# Altium schematic symbol library test.SchLib: 309 symbols (part 3 of 9)
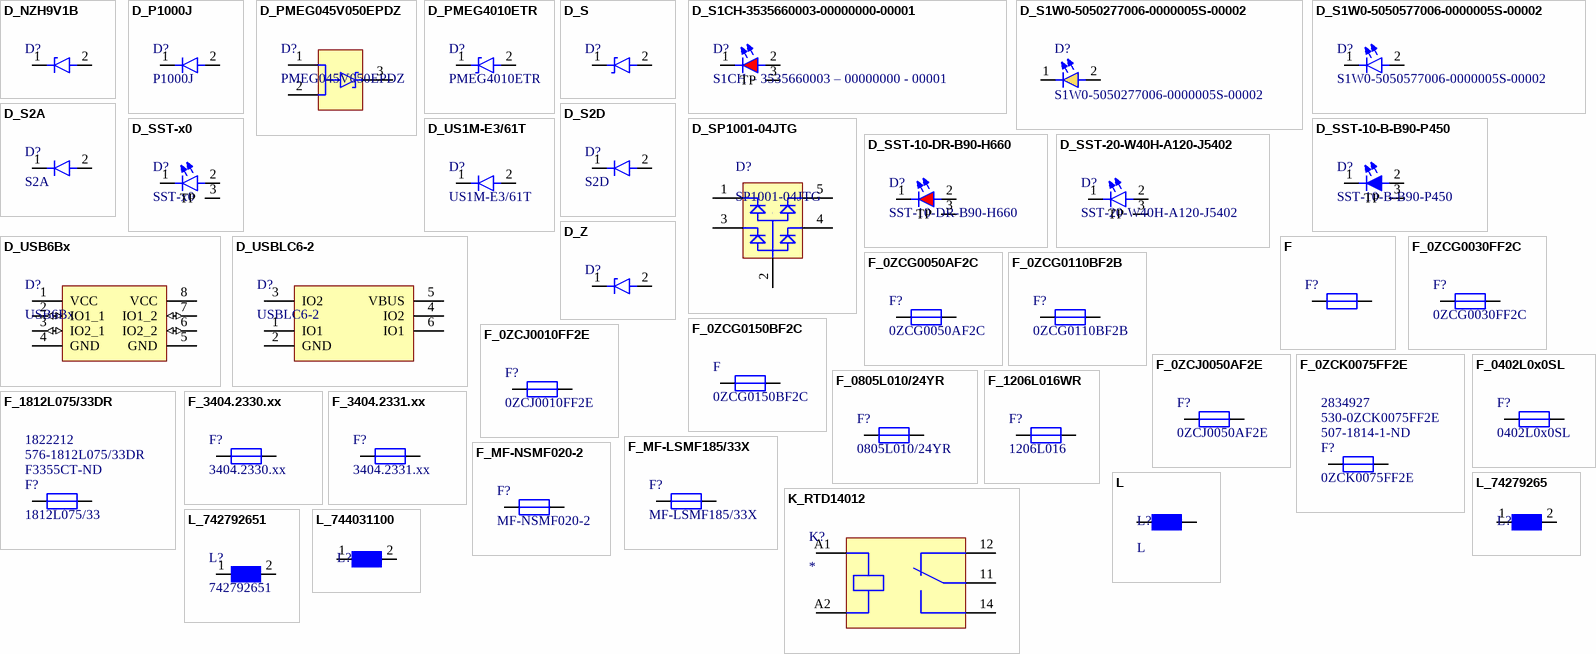
[diagram p10: symbols D_NZH9V1B to L_744031100]

## L_742792651
designator L?, comment 742792651
WURTH ELEKTRONIK - 742792651 - Ferrite Bead, 0603 [1608 Metric], 600 ohm, 1 A, WE-CBF Series, 0.2 ohm, &#177; 25%; Manufacturer: Wurth Electronics; Current Rating: 1A; Impedance: 600R; Number of Lines: 1; DC Resistance (DCR): 200mR; Test Frequency: 100MHz; Inductance: 0.36h; Supplier 1: Digi-Key; Supplier Part Number 1: 732-1593-1-ND; Manufacturer Part Number: 742792651; Stock 1: 248632; Pricing 1: 1=0.17000, 50=0.16800, 100=0.15500, 500=0.14800, 1000=0.14100, 2000=0.13400 (USD); Mount: Surface Mount; Case/Package: SMD/SMT; Weight: 0.000141oz; Case Code (Metric): 1608; Case Code (Imperial): 0603; Material: Ferrite; Core Material: Ferrite; Min Operating Temperature: -55°C; Max Operating Temperature: 125°C; Tolerance: 25%; Package Quantity: 1; Packaging: Tape and Reel; Max Current Rating: 1A; Max DC Current: 1A; Termination: SMD/SMT; Resistance: 200mR; Length: 1.6mm; Height: 0.8mm; Width: 0.8mm; Depth: 0.8mm; REACH SVHC: Unknown; Lead Free: Lead Free; ComponentLink1URL: http://documents.rs-components.com/techlib://itc_doclist_GB.htm?stockno=6694046; ComponentLink1Description: http://documents.rs-components.com/techlib://itc_doclist_GB.htm?stockno=6694046; ComponentLink2URL: http://www.farnell.com/datasheets/1705833.pdf; ComponentLink2Description: http://www.farnell.com/datasheets/1705833.pdf; ComponentLink3URL: https://katalog.we-online.de/pbs/datasheet/742792651.pdf; ComponentLink3Description: https://katalog.we-online.de/pbs/datasheet/742792651.pdf; ComponentLink4URL: http://www.mouser.com/ds/2/445/742792651-538156.pdf; ComponentLink4Description: http://www.mouser.com/ds/2/445/742792651-538156.pdf; RoHS: Yes; Category: Ferrite Beads and Chips; Series: WE-CBF; RoHS Compliant: Yes; ComponentLink5URL: https://datasheet.ciiva.com/11803/0900766b80d2e079-11803680.pdf?src-supplier=RSComponents; ComponentLink5Description: https://datasheet.ciiva.com/11803/0900766b80d2e079-11803680.pdf?src-supplier=RSComponents; ComponentLink6URL: https://datasheet.ciiva.com/1475/1705833-1475349.pdf?src-supplier=Farnell; ComponentLink6Description: https://datasheet.ciiva.com/1475/1705833-1475349.pdf?src-supplier=Farnell; ComponentLink7URL: https://datasheet.ciiva.com/1013/742792651-1013527.pdf?src-supplier=Digi-Key; ComponentLink7Description: https://datasheet.ciiva.com/1013/742792651-1013527.pdf?src-supplier=Digi-Key; ComponentLink8URL: https://datasheet.ciiva.com/4940/742792651-72243-4940492.pdf?src-supplier=Mouser; ComponentLink8Description: https://datasheet.ciiva.com/4940/742792651-72243-4940492.pdf?src-supplier=Mouser; ComponentLink9URL: https://datasheet.ciiva.com/1013/742792651-1013528.pdf?src-supplier=Digi-Key; ComponentLink9Description: https://datasheet.ciiva.com/1013/742792651-1013528.pdf?src-supplier=Digi-Key; ComponentLink10URL: https://datasheet.ciiva.com/1013/742792651-1013529.pdf?src-supplier=Digi-Key; ComponentLink10Description: https://datasheet.ciiva.com/1013/742792651-1013529.pdf?src-supplier=Digi-Key; ComponentLink11URL: https://datasheet.ciiva.com/22711/1705833-22711420.pdf?src-supplier=Element14; ComponentLink11Description: https://datasheet.ciiva.com/22711/1705833-22711420.pdf?src-supplier=Element14; Supplier 2: Mouser; Stock 2: 272524; Pricing 2: 1=0.18000, 10=0.18000, 50=0.17400, 100=0.16000, 1000=0.14600, 10000=0.08200 (USD); Supplier 3: Farnell; Stock 3: 95420; Pricing 3: 10=0.24400, 100=0.16400, 500=0.12300, 1000=0.10800, 2000=0.10200 (GBP); Supplier Part Number 2: 710-742792651; Supplier Part Number 3: 1635706
footprint 0603_L
pins: 1, 2

## L_744031100
designator L?, comment 744031100  (value not drawn)
FIXED IND 10UH 740MA 205 MOHM; Manufacturer: Wurth Electronics; Core Material: Ferrite; Inductance Tolerance: 30%; Self Resonant Frequency: 45MHz; Saturation Current: 560mA; Shielding: Shielded; DC Resistance (DCR): 205mR; Test Frequency: 100kHz; Manufacturer Part Number: 744031100; ComponentLink1Description: Manufacturer URL; ComponentLink1URL: http://www.we-online.com; ComponentLink2Description: Datasheet; ComponentLink2URL: http://www.we-online.de/katalog/media/pdf/744031100.pdf; Case/Package: Nonstandard; ComponentLink3URL: https://datasheet.ciiva.com/11799/0900766b8079f7b2-11799684.pdf; ComponentLink3Description: https://datasheet.ciiva.com/11799/0900766b8079f7b2-11799684.pdf; ComponentLink4URL: https://datasheet.ciiva.com/4961/744031100-72715-4961390.pdf; ComponentLink4Description: https://datasheet.ciiva.com/4961/744031100-72715-4961390.pdf; ComponentLink5URL: https://datasheet.ciiva.com/1567/744031100-1567208.pdf; ComponentLink5Description: https://datasheet.ciiva.com/1567/744031100-1567208.pdf; ComponentLink6URL: https://datasheet.ciiva.com/1050/744031100-1050622.pdf; ComponentLink6Description: https://datasheet.ciiva.com/1050/744031100-1050622.pdf; ComponentLink7URL: https://datasheet.ciiva.com/1050/744031100-1050623.pdf; ComponentLink7Description: https://datasheet.ciiva.com/1050/744031100-1050623.pdf; ComponentLink8URL: https://datasheet.ciiva.com/1050/744031100-1050621.pdf; ComponentLink8Description: https://datasheet.ciiva.com/1050/744031100-1050621.pdf; ComponentLink9URL: https://datasheet.ciiva.com/1473/744031100-1473425.pdf; ComponentLink9Description: https://datasheet.ciiva.com/1473/744031100-1473425.pdf; ComponentLink10URL: https://datasheet.ciiva.com/1473/744031100-1473424.pdf; ComponentLink10Description: https://datasheet.ciiva.com/1473/744031100-1473424.pdf; ComponentLink11URL: https://datasheet.ciiva.com/48691/001087154-da-01-ml-we-tpc-smd-speicherdrossel-7440311-de-en-48691029.pdf; ComponentLink11Description: https://datasheet.ciiva.com/48691/001087154-da-01-ml-we-tpc-smd-speicherdrossel-7440311-de-en-48691029.pdf; Supplier 1: Digi-Key; Supplier Part Number 1: 732-1010-1-ND; RoHS: Yes; Category: Fixed Inductors; Stock 1: 83; Pricing 1: 1=1.43000, 10=1.38900, 50=1.21500, 100=1.11100, 500=0.98000 (USD); Mount: Surface Mount; Weight: 0.003633oz; Min Operating Temperature: -40°C; Max Operating Temperature: 125°C; Inductance: 10uH; Tolerance: 30%; Package Quantity: 1000; Current Rating: 740mA; Packaging: Tape and Reel; Resistor Type: Wirewound; Max DC Current: 740mA; Termination: SMD/SMT; RMS Current (Irms): 740mA; Series: WE-TPC 3816; Series Resistance: 205mR; Length: 3.8mm; Width: 3.8mm; Height: 1.65mm; Height - Seated (Max): 0.071inch; REACH SVHC: Unknown; RoHS Compliant: Yes; Lead Free: Lead Free; ComponentLink12URL: https://datasheet.ciiva.com/11799/0900766b8079f7b2-11799684.pdf?src-supplier=RSComponents; ComponentLink12Description: https://datasheet.ciiva.com/11799/0900766b8079f7b2-11799684.pdf?src-supplier=RSComponents; ComponentLink13URL: https://datasheet.ciiva.com/1567/744031100-1567208.pdf?src-supplier=Newark; ComponentLink13Description: https://datasheet.ciiva.com/1567/744031100-1567208.pdf?src-supplier=Newark; ComponentLink14URL: https://datasheet.ciiva.com/4961/744031100-72715-4961390.pdf?src-supplier=Mouser; ComponentLink14Description: https://datasheet.ciiva.com/4961/744031100-72715-4961390.pdf?src-supplier=Mouser; ComponentLink15URL: https://datasheet.ciiva.com/1473/744031100-1473424.pdf?src-supplier=Element14; ComponentLink15Description: https://datasheet.ciiva.com/1473/744031100-1473424.pdf?src-supplier=Element14; ComponentLink16URL: https://datasheet.ciiva.com/1473/744031100-1473425.pdf?src-supplier=Element14; ComponentLink16Description: https://datasheet.ciiva.com/1473/744031100-1473425.pdf?src-supplier=Element14; ComponentLink17URL: https://datasheet.ciiva.com/1050/744031100-1050621.pdf?src-supplier=Digi-Key; ComponentLink17Description: https://datasheet.ciiva.com/1050/744031100-1050621.pdf?src-supplier=Digi-Key; ComponentLink18URL: https://datasheet.ciiva.com/1050/744031100-1050622.pdf?src-supplier=Digi-Key; ComponentLink18Description: https://datasheet.ciiva.com/1050/744031100-1050622.pdf?src-supplier=Digi-Key; ComponentLink19URL: https://datasheet.ciiva.com/1050/744031100-1050623.pdf?src-supplier=Digi-Key; ComponentLink19Description: https://datasheet.ciiva.com/1050/744031100-1050623.pdf?src-supplier=Digi-Key; ComponentLink20URL: https://datasheet.ciiva.com/48691/001087154-da-01-ml-we-tpc-smd-speicherdrossel-7440311-de-en-48691029.pdf?src-supplier=Conrad; ComponentLink20Description: https://datasheet.ciiva.com/48691/001087154-da-01-ml-we-tpc-smd-speicherdrossel-7440311-de-en-48691029.pdf?src-supplier=Conrad; Supplier 2: Farnell; Stock 2: 530; Pricing 2: 1=1.15000, 50=0.89000, 100=0.81400, 250=0.76600, 500=0.71800, 1000=0.51000, 5000=0.50500 (GBP); Supplier 3: Mouser; Stock 3: 1369; Pricing 3: 1=1.48000, 10=1.44000, 50=1.26000, 100=1.15000, 1000=0.79700, 10000=0.71400 (USD); Supplier Part Number 2: 1635835; Supplier Part Number 3: 710-744031100
footprint WE-TPC-3816-S (SMD Inductor, 2-Leads, Body 3.8x3.8x1.8 mm)
pins: 1, 2

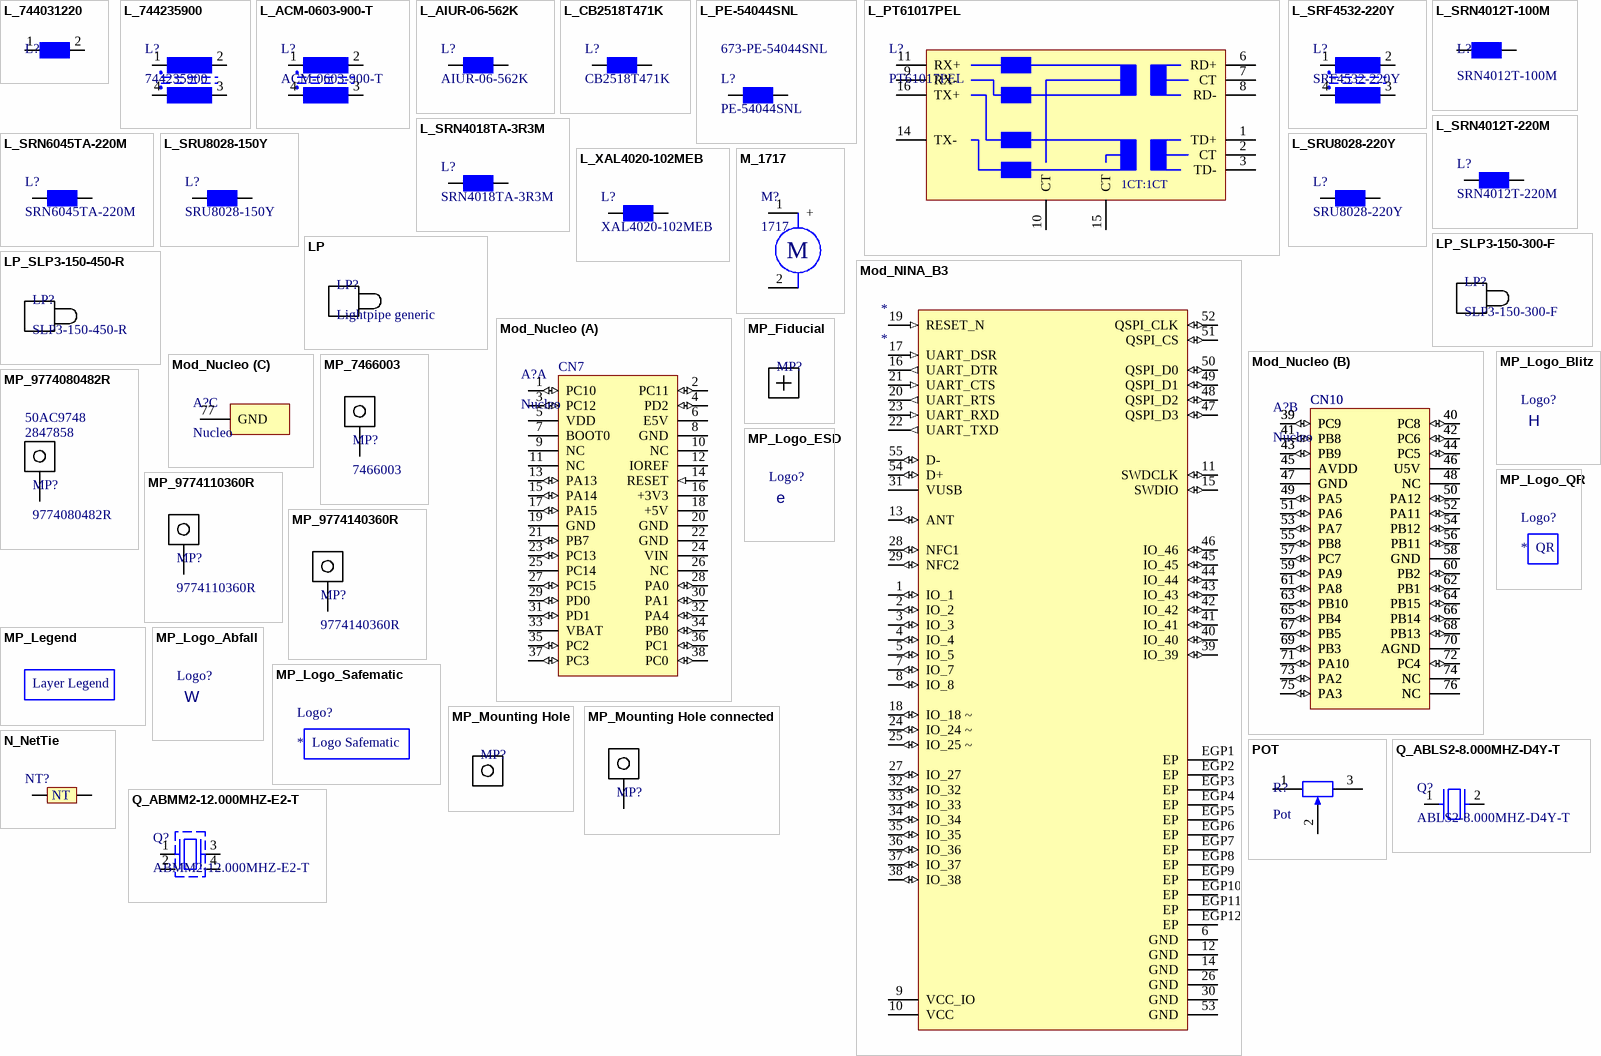
[diagram p2: symbols L_744031220 to Q_ABMM2-12.000MHZ-E2-T]

## L_744031220
designator L?, comment 744031220  (value not drawn)
SMD Shielded Tiny Power Inductor WE-TPC, L = 22.0 µH; Manufacturer: Würth; Manufacturer Part Number: 744031220; ComponentLink1Description: Manufacturer URL; ComponentLink1URL: http://www.we-online.com; ComponentLink2Description: Datasheet; ComponentLink2URL: http://www.we-online.de/katalog/media/pdf/744031220.pdf; Case/Package: Nonstandard; ComponentLink3URL: https://datasheet.ciiva.com/4961/744031220-79613-4961173.pdf; ComponentLink3Description: https://datasheet.ciiva.com/4961/744031220-79613-4961173.pdf; ComponentLink4URL: https://datasheet.ciiva.com/7210/744031220-7210946.pdf; ComponentLink4Description: https://datasheet.ciiva.com/7210/744031220-7210946.pdf; ComponentLink5URL: https://datasheet.ciiva.com/11800/0900766b8079f7b9-11800353.pdf; ComponentLink5Description: https://datasheet.ciiva.com/11800/0900766b8079f7b9-11800353.pdf; ComponentLink6URL: https://datasheet.ciiva.com/7691/744031220-7691543.pdf; ComponentLink6Description: https://datasheet.ciiva.com/7691/744031220-7691543.pdf; ComponentLink7URL: https://datasheet.ciiva.com/14123/lp744031220-data-de-14123802.pdf; ComponentLink7Description: https://datasheet.ciiva.com/14123/lp744031220-data-de-14123802.pdf; ComponentLink8URL: https://datasheet.ciiva.com/1058/744031220-1058566.pdf; ComponentLink8Description: https://datasheet.ciiva.com/1058/744031220-1058566.pdf; ComponentLink9URL: https://datasheet.ciiva.com/1058/744031220-1058567.pdf; ComponentLink9Description: https://datasheet.ciiva.com/1058/744031220-1058567.pdf; Supplier 1: Digi-Key; Supplier 2: Mouser; Supplier 3: Farnell; Supplier Part Number 1: 732-1012-1-ND; Supplier Part Number 2: 710-744031220; Supplier Part Number 3: 1890602
footprint WE-TPC-3816-S (SMD Inductor, 2-Leads, Body 3.8x3.8x1.8 mm)
pins: 1, 2

## L_744235900
designator L?, comment 744235900
CHOKE COM MODE 90 OHM 2A SMD; Manufacturer: Wurth Electronics; Manufacturer Part Number: 744235900; ComponentLink1URL: https://datasheet.ciiva.com/6216/744235900-6216097.pdf; ComponentLink1Description: https://datasheet.ciiva.com/6216/744235900-6216097.pdf; ComponentLink2URL: https://datasheet.ciiva.com/8051/1735646-8051205.pdf; ComponentLink2Description: https://datasheet.ciiva.com/8051/1735646-8051205.pdf; ComponentLink3URL: https://datasheet.ciiva.com/23755/1668094-23755210.pdf; ComponentLink3Description: https://datasheet.ciiva.com/23755/1668094-23755210.pdf; ComponentLink4URL: https://datasheet.ciiva.com/25607/0900766b811a4276-25607311.pdf; ComponentLink4Description: https://datasheet.ciiva.com/25607/0900766b811a4276-25607311.pdf; ComponentLink5URL: https://datasheet.ciiva.com/12379/744235900-12379703.pdf; ComponentLink5Description: https://datasheet.ciiva.com/12379/744235900-12379703.pdf; ComponentLink6URL: https://datasheet.ciiva.com/48691/001087393-da-01-ml-we-cnsw-stromk-smd-line-filter-744-de-en-48691418.pdf; ComponentLink6Description: https://datasheet.ciiva.com/48691/001087393-da-01-ml-we-cnsw-stromk-smd-line-filter-744-de-en-48691418.pdf; Supplier 1: Digi-Key; Supplier 2: Mouser; Supplier 3: Farnell; Supplier Part Number 1: 732-4223-1-ND; Supplier Part Number 2: 710-744235900; Supplier Part Number 3: 2249865
footprint 744235900
pins: 1, 2, 3, 4

## L_ACM-0603-900-T
designator L?, comment ACM-0603-900-T
INDUCTOR COMMON MODE SMD; Manufacturer: Abracon; Manufacturer Part Number: ACM-0603-900-T; Case/Package: 0603; ComponentLink1URL: https://datasheet.ciiva.com/29370/acm-0603-29370512.pdf; ComponentLink1Description: https://datasheet.ciiva.com/29370/acm-0603-29370512.pdf; ComponentLink2URL: http://www.mouser.com/ds/2/115/AP21410_21510-740863.pdf; ComponentLink2Description: http://www.mouser.com/ds/2/115/AP21410_21510-740863.pdf; ComponentLink3URL: http://www.diodes.com/_files/datasheets/AP21410_21510.pdf; ComponentLink3Description: http://www.diodes.com/_files/datasheets/AP21410_21510.pdf; Supplier 1: Digi-Key; Supplier 2: Mouser; Supplier Part Number 1: 535-12407-1-ND; Supplier Part Number 2: 815-ACM-0603-900-T
footprint ACM-0603-900-T
pins: 1, 2, 3, 4

## L_AIUR-06-562K
designator L?, comment AIUR-06-562K
FIXED IND 5.6MH 250MA 6.3 OHM TH; Manufacturer: Abracon; Core Material: Ferrite; Tolerance: 10%; Shielding: Unshielded; Max DC Current: 370mA; DC Resistance (DCR): 6.3R; Test Frequency: 1kHz; Lead/Base Style: Radial; Lead Diameter: 0.81mm; Supplier 1: Digi-Key; Manufacturer Part Number: AIUR-06-562K; RoHS: Yes; Category: Fixed Inductors; Stock 1: 171; Pricing 1: 1=1.08000, 10=0.99800, 25=0.92160, 50=0.76800, 100=0.72190, 250=0.64512, 500=0.55296, 1000=0.49152, 2500=0.47616 (USD); Mount: Through Hole; Case/Package: Radial; Min Operating Temperature: -40°C; Max Operating Temperature: 125°C; Packaging: Bulk; Current Rating: 250mA; Inductance: 5.6mH; Termination: Radial; Resistor Type: Wirewound; Saturation Current: 370mA; Series: AIUR-06; Package Quantity: 250; Length: 18mm; Height: 18mm; Lead Pitch: 7.37mm; Height - Seated (Max): 0.71inch; Radiation Hardening: No; RoHS Compliant: Yes; ComponentLink1URL: https://datasheet.ciiva.com/6693/aiur-06-6693645.pdf?src-supplier=Digi-Key; ComponentLink1Description: https://datasheet.ciiva.com/6693/aiur-06-6693645.pdf?src-supplier=Digi-Key; Supplier 2: Mouser; Stock 2: 173; Pricing 2: 1=1.05000, 10=0.96100, 50=0.80000, 100=0.75300, 1000=0.49600, 10000=0.46400 (USD); Supplier 3: Avnet; Pricing 3: 1000=0.45440, 1500=0.44800, 2500=0.43520, 5000=0.41895, 10000=0.40320, 50000=0.39375, 100000=0.38430 (USD); Supplier Part Number 1: AIUR-06-562K-ND; Supplier Part Number 2: 815-AIUR-06-562K; Supplier Part Number 3: AIUR-06-562K
footprint AIUR-06
pins: 1, 2

## L_CB2518T471K
designator L?, comment CB2518T471K
Fixed Inductors INDCTR HI CUR WND 1007 470uH 10%; Manufacturer: Taiyo Yuden; Manufacturer Part Number: CB2518T471K; ComponentLink1Description: http://ds.yuden.co.jp/TYCOMPAS/ut/detail.do?productNo=CB2518T471K&fileName=CB2518T471K_SS; ComponentLink1URL: http://ds.yuden.co.jp/TYCOMPAS/ut/detail.do?productNo=CB2518T471K&fileName=CB2518T471K_SS&mode=specSheetDownload; ComponentLink2Description: https://www.yuden.co.jp/productdata/catalog/wound02_e.pdf; ComponentLink2URL: https://www.yuden.co.jp/productdata/catalog/wound02_e.pdf; Supplier 1: Digi-Key; Supplier 2: Mouser; Supplier 3: Farnell; Supplier Part Number 1: 587-2194-1-ND; Supplier Part Number 2: 963-CB2518T471K; Supplier Part Number 3: 2084774
footprint 1007_L
pins: 1, 2

## L_PE-54044SNL
designator L?, comment PE-54044SNL  Supplier Part Number 2: 673-PE-54044SNL
Inductor Power Wirewound 77uH 20% 3A 80mOhm DCR; Manufacturer: Pulse; Shielding: Unshielded; DC Resistance (DCR): 80mR; Manufacturer Part Number: PE-54044SNL; RoHS: Yes; Category: Fixed Inductors; Stock: 544; Pricing 1: 1=4.11000, 10=3.76800, 100=2.46600, 500=2.19200, 1000=2.05500, 2500=1.98650 (USD); Mount: Surface Mount; Case/Package: Nonstandard; Min Operating Temperature: -40°C; Max Operating Temperature: 130°C; Tolerance: 20%; Inductance: 77uH; Max DC Current: 3A; Current Rating: 3A; Package Quantity: 70; Packaging: Bulk; Termination: SMD/SMT; DC Current: 3A; Military Standard: Not; Length: 0.94inch; Height: 21.08mm; Width: 0.94inch; Depth: 23.87mm; Height - Seated (Max): 0.4inch; Radiation Hardening: No; Lead Free: Lead Free; ComponentLink1URL: https://datasheet.ciiva.com/4961/268328-4961288.pdf?src-supplier=Mouser; ComponentLink1Description: https://datasheet.ciiva.com/4961/268328-4961288.pdf?src-supplier=Mouser; ComponentLink2URL: https://datasheet.ciiva.com/48506/spm2007-series-eng-tds-48506490.pdf?src-supplier=Distrelec; ComponentLink2Description: https://datasheet.ciiva.com/48506/spm2007-series-eng-tds-48506490.pdf?src-supplier=Distrelec; Supplier 1: Digi-Key; Supplier 2: Mouser; Supplier Part Number 1: 553-1425-ND
footprint HCI-68
pins: 1, 2

## L_PT61017PEL
designator L?, comment PT61017PEL
Audio & Signal Transformers LAN 10/100 Tin Potted; Manufacturer: Bourns; Manufacturer Part Number: PT61017PEL; Case/Package: SMD/SMT; ComponentLink1URL: https://datasheet.ciiva.com/23967/pt61017pel-23967552.pdf; ComponentLink1Description: https://datasheet.ciiva.com/23967/pt61017pel-23967552.pdf; ComponentLink2URL: https://datasheet.ciiva.com/31413/1768532-31413328.pdf; ComponentLink2Description: https://datasheet.ciiva.com/31413/1768532-31413328.pdf; ComponentLink3URL: https://datasheet.ciiva.com/24150/pt61017pel-270447-24150505.pdf; ComponentLink3Description: https://datasheet.ciiva.com/24150/pt61017pel-270447-24150505.pdf; ComponentLink4URL: https://datasheet.ciiva.com/28459/pt61017pel-28459578.pdf; ComponentLink4Description: https://datasheet.ciiva.com/28459/pt61017pel-28459578.pdf; ComponentLink5URL: https://datasheet.ciiva.com/29632/pt61017pel-29632986.pdf; ComponentLink5Description: https://datasheet.ciiva.com/29632/pt61017pel-29632986.pdf; ComponentLink6URL: https://datasheet.ciiva.com/29632/pt61017pel-29632987.pdf; ComponentLink6Description: https://datasheet.ciiva.com/29632/pt61017pel-29632987.pdf; Supplier 1: Digi-Key; Supplier 2: Mouser; Supplier 3: Farnell; Supplier Part Number 1: PT61017PELCT-ND; Supplier Part Number 2: 652-PT61017PEL; Supplier Part Number 3: 2372981
footprint PT61017PEL
pins: 1 TD+, 2 CT, 3 TD-, 6 RD+, 7 CT, 8 RD-, 9 RX-, 10 CT, 11 RX+, 14 TX-, 15 CT, 16 TX+
text: 1CT:1CT

## L_SRF4532-220Y
designator L?, comment SRF4532-220Y
BOURNS SRF4532-220Y INDUCTOR, COMMON MODE, 22UH,  0.2A; ComponentLink1URL: https://datasheet.ciiva.com/7847/srf4532-7847901.pdf; ComponentLink1Description: https://datasheet.ciiva.com/7847/srf4532-7847901.pdf; ComponentLink2URL: https://datasheet.ciiva.com/6214/srf4532-6214766.pdf; ComponentLink2Description: https://datasheet.ciiva.com/6214/srf4532-6214766.pdf; ComponentLink3URL: https://datasheet.ciiva.com/6214/srf4532-6214765.pdf; ComponentLink3Description: https://datasheet.ciiva.com/6214/srf4532-6214765.pdf; ComponentLink4URL: https://datasheet.ciiva.com/22628/1911192-22628122.pdf; ComponentLink4Description: https://datasheet.ciiva.com/22628/1911192-22628122.pdf; ComponentLink5URL: https://datasheet.ciiva.com/48686/001056378-da-01-en-indukt-kom-mod-srf4532-220y-22uh-0-2a-48686762.pdf; ComponentLink5Description: https://datasheet.ciiva.com/48686/001056378-da-01-en-indukt-kom-mod-srf4532-220y-22uh-0-2a-48686762.pdf; ComponentLink6URL: https://datasheet.ciiva.com/29370/acm-0603-29370512.pdf; ComponentLink6Description: https://datasheet.ciiva.com/29370/acm-0603-29370512.pdf; Manufacturer: Bourns; Manufacturer Part Number: SRF4532-220Y; Case/Package: 4532; Supplier 1: Digi-Key; Supplier 2: Mouser; Supplier 3: Farnell; Supplier Part Number 1: SRF4532-220YCT-ND; Supplier Part Number 2: 652-SRF4532-220Y; Supplier Part Number 3: 2252352
footprint SRF4532 (Common Mode Chip Inductors)
pins: 1, 2, 3, 4

## L_SRN4012T-100M
designator L?, comment SRN4012T-100M
Surface Mount Power Inductor, SRN4012T Series, 10 H, 1.1 A, 800 mA, Semishielded, 0.18 ohm; Manufacturer: Bourns; Case/Package: Nonstandard; Manufacturer Part Number: SRN4012T-100M; ComponentLink1URL: https://datasheet.ciiva.com/48954/70479816-48954559.pdf; ComponentLink1Description: https://datasheet.ciiva.com/48954/70479816-48954559.pdf; Supplier 1: Digi-Key; Supplier 2: Farnell; Supplier 3: Mouser; Supplier Part Number 1: SRN4012T-100M-CT-ND; Supplier Part Number 2: 2467455; Supplier Part Number 3: 652-SRN4012T-100M
footprint SRN4012T (SRN4012T Series - Semi-shielded Power Inductors)
pins: 1, 2

## L_SRN4012T-220M
designator L?, comment SRN4012T-220M
Surface Mount Power Inductor, SRN4012T Series, 22 H, 620 mA, 500 mA, Semishielded, 0.4 ohm; Manufacturer: Bourns; Manufacturer Part Number: SRN4012T-220M; ComponentLink1URL: http://www.farnell.com/datasheets/1880652.pdf; ComponentLink1Description: http://www.farnell.com/datasheets/1880652.pdf; ComponentLink2URL: http://www.mouser.com/ds/2/54/rn4012t-778048.pdf; ComponentLink2Description: http://www.mouser.com/ds/2/54/rn4012t-778048.pdf; ComponentLink3URL: http://www.bourns.com/docs/Product-Datasheets/SRN4012T.pdf; ComponentLink3Description: http://www.bourns.com/docs/Product-Datasheets/SRN4012T.pdf; Supplier 1: Digi-Key; Supplier 2: Farnell; Supplier 3: Mouser; Supplier Part Number 1: SRN4012T-220MCT-ND; Supplier Part Number 2: 2467457; Supplier Part Number 3: 652-SRN4012T-220M
footprint SRN4012T (SRN4012T Series - Semi-shielded Power Inductors)
pins: 1, 2

## L_SRN4018TA-3R3M
designator L?, comment SRN4018TA-3R3M
FIXED IND 3.3UH 2A 55 MOHM; Manufacturer: Bourns; Manufacturer Part Number: SRN4018TA-3R3M; ComponentLink1Description: https://www.bourns.com/docs/Product-Datasheets/SRN4018TA.pdf; ComponentLink1URL: https://www.bourns.com/docs/Product-Datasheets/SRN4018TA.pdf; Supplier 1: Digi-Key; Supplier 2: Mouser; Supplier 3: Farnell; Supplier Part Number 1: SRN4018TA-3R3MCT-ND; Supplier Part Number 2: 652-SRN4018TA-3R3M; Supplier Part Number 3: 2677203
footprint SRN4018TA (SRN4018TA Series - Semi-shielded Power Inductors)
pins: 1, 2

## L_SRN6045TA-220M
designator L?, comment SRN6045TA-220M
SRN6045TA-220M    Surface Mount Power Inductor, AEC-Q200, SRN6045TA Series, 22 H, 2.3 A, 3.3 A, Semishielded; Manufacturer: Bourns; Number of Outputs: 1; Min Input Voltage: 2.7V; Max Input Voltage: 5.5V; Min Output Voltage: 600mV; Output Current: 2A; Switching Frequency: 1MHz; Synchronous Rectifier: Yes; Output Type: Adjustable; Output Configuration: Positive; Manufacturer Part Number: SRN6045TA-220M; ComponentLink1Description: https://www.bourns.com/docs/Product-Datasheets/SRN6045TA.pdf; ComponentLink1URL: https://www.bourns.com/docs/Product-Datasheets/SRN6045TA.pdf; Stock 2: 23700; Pricing 2: 1=0.42, 10=0.339, 100=0.2307, 500=0.17304, 1000=0.12978 (USD); Mount: Surface Mount; Case/Package: SOT-23-5; Min Operating Temperature: -40°C; Max Operating Temperature: 85°C; Packaging: Tape and Reel; Max Output Voltage: 5.5V; Supplier 1: Digi-Key; Supplier 2: Mouser; Supplier 3: Farnell; Supplier Part Number 1: SRN6045TA-220MCT-ND; Supplier Part Number 2: 652-SRN6045TA-220M; Supplier Part Number 3: 2616895
footprint SRN6045TA (SRN6045TA Series - Semi-shielded Power Inductors)
pins: 1, 2

## L_SRU8028-150Y
designator L?, comment SRU8028-150Y
Fixed Inductors 15uH 30% SMD 8028; Manufacturer: Bourns; Manufacturer Part Number: SRU8028-150Y; ComponentLink1URL: https://datasheet.ciiva.com/48684/sru8028-48684958.pdf; ComponentLink1Description: https://datasheet.ciiva.com/48684/sru8028-48684958.pdf; ComponentLink2URL: https://datasheet.ciiva.com/17285/sru8028-17285547.pdf; ComponentLink2Description: https://datasheet.ciiva.com/17285/sru8028-17285547.pdf; ComponentLink3URL: https://datasheet.ciiva.com/6703/sru8028-6703878.pdf; ComponentLink3Description: https://datasheet.ciiva.com/6703/sru8028-6703878.pdf; Supplier 1: Digi-Key; Supplier 2: Mouser; Supplier 3: Farnell
footprint SRU8028 (SRU8028 Series - Shielded Power Inductors, IPC Medium Density)
pins: 1, 2

## L_SRU8028-220Y
designator L?, comment SRU8028-220Y
Fixed Inductors 22uH 30% SMD 8028; Manufacturer: Bourns; ComponentLink1URL: https://datasheet.ciiva.com/48684/sru8028-48684958.pdf; ComponentLink1Description: https://datasheet.ciiva.com/48684/sru8028-48684958.pdf; ComponentLink2URL: https://datasheet.ciiva.com/17285/sru8028-17285547.pdf; ComponentLink2Description: https://datasheet.ciiva.com/17285/sru8028-17285547.pdf; ComponentLink3URL: https://datasheet.ciiva.com/6703/sru8028-6703878.pdf; ComponentLink3Description: https://datasheet.ciiva.com/6703/sru8028-6703878.pdf; Manufacturer Part Number: SRU8028-220Y; Case/Package: 8028; ComponentLink14URL: https://datasheet.ciiva.com/6691/sru8028-6691834.pdf; ComponentLink14Description: https://datasheet.ciiva.com/6691/sru8028-6691834.pdf; ComponentLink15URL: https://datasheet.ciiva.com/6691/sru8028-6691836.pdf; ComponentLink15Description: https://datasheet.ciiva.com/6691/sru8028-6691836.pdf; ComponentLink16URL: https://datasheet.ciiva.com/6161/sru8028-6161214.pdf; ComponentLink16Description: https://datasheet.ciiva.com/6161/sru8028-6161214.pdf; ComponentLink17URL: https://datasheet.ciiva.com/17285/sru8028-17285550.pdf; ComponentLink17Description: https://datasheet.ciiva.com/17285/sru8028-17285550.pdf; Supplier 1: Digi-Key; Supplier 2: Mouser; Supplier 3: Farnell; Supplier Part Number 1: SRU8028-220YCT-ND; Supplier Part Number 2: 652-SRU8028-220Y; Supplier Part Number 3: 3373440
footprint SRU8028 (SRU8028 Series - Shielded Power Inductors, IPC Medium Density)
pins: 1, 2

## L_XAL4020-102MEB
designator L?, comment XAL4020-102MEB
COILCRAFT - XAL4020-102MEB - Leistungsinduktivität (SMD), 1 µH, 9.6 A, Geschirmt, 8.7 A, Baureihe XAL40xx, 4mm x 4mm x 2.1mm; Core Material: Composite; Tolerance: 20%; Self Resonant Frequency: 79MHz; Shielding: Shielded; Inductance: 1uH; Max DC Current: 9.6A; DC Resistance (DCR): 14.6mR; Test Frequency: 100kHz; Saturation Current: 8.7A; Manufacturer: Coilcraft; Manufacturer Part Number: XAL4020-102MEB; RoHS: Yes; Category: Fixed Inductors; Stock: 2880; Pricing 1: 1=2.92000, 50=2.01000, 100=1.60000, 250=1.49000, 500=1.05000 (CHF); Mount: Surface Mount; Case/Package: SMD/SMT; Min Operating Temperature: -40°C; Max Operating Temperature: 125°C; Packaging: Tape and Reel; Package Quantity: 20; Termination: SMD/SMT; Inductance Tolerance: 20%; RMS Current (Irms): 9.6A; Length: 4.3mm; Height: 2.1mm; Width: 4.3mm; Lead Free: Contains Lead; REACH SVHC: No SVHC; ComponentLink1URL: https://datasheet.ciiva.com/13278/xal4000-13278240.pdf?src-supplier=Mouser; ComponentLink1Description: https://datasheet.ciiva.com/13278/xal4000-13278240.pdf?src-supplier=Mouser; ComponentLink2URL: https://datasheet.ciiva.com/22680/1681987-22680728.pdf?src-supplier=Element14; ComponentLink2Description: https://datasheet.ciiva.com/22680/1681987-22680728.pdf?src-supplier=Element14; Supplier 1: Farnell; Supplier 2: Mouser; Supplier Part Number 1: 2289051; Supplier Part Number 2: 994-XAL4020-102MEB
footprint XAL40 (Precision Wire Wound Inductor, 2-Leads, Body 4.00x4.00mm, IPC Medium Density)
pins: 1, 2

## LP
designator LP?, comment Lightpipe generic
footprint SLP3-150-300-F
footprint SLP3-150-450-R (Lightpipe)

## LP_SLP3-150-300-F
designator LP?, comment SLP3-150-300-F
Bag / Light Pipe, Rigid, Board Mount, Right Angle, Variable Center Line, .150 in; Manufacturer: Bivar; Manufacturer Part Number: SLP3-150-300-F; RoHS: Yes; Category: LEDs; Stock: 12179; Pricing 1: 1=0.64000, 10=0.49800, 100=0.32000, 500=0.27018, 1000=0.21330, 2500=0.19908, 5000=0.19197, 10000=0.18960 (USD); Color: Clear; Material: PC,Polycarbonate; Package Quantity: 100; Packaging: Bulk; ComponentLink1URL: http://www.mouser.com/ds/2/50/SLP3-150-XXX-X-595117.pdf?src-supplier=Mouser; ComponentLink1Description: http://www.mouser.com/ds/2/50/SLP3-150-XXX-X-595117.pdf?src-supplier=Mouser; ComponentLink2URL: http://www.alliedelec.com/images/products/datasheets/bm/Bivar/70536300.pdf?src-supplier=Allied+Electronics; ComponentLink2Description: http://www.alliedelec.com/images/products/datasheets/bm/Bivar/70536300.pdf?src-supplier=Allied+Electronics; ComponentLink3URL: https://www.bivar.com/Files/Datasheets/SLP3-150-XXX-X.pdf?src-supplier=Digi-Key; ComponentLink3Description: https://www.bivar.com/Files/Datasheets/SLP3-150-XXX-X.pdf?src-supplier=Digi-Key; ComponentLink4URL: http://www.bivar.com/portals/0/products/SLP3-150-XXX-X.pdf?src-supplier=Digi-Key; ComponentLink4Description: http://www.bivar.com/portals/0/products/SLP3-150-XXX-X.pdf?src-supplier=Digi-Key; Supplier 1: Digi-Key; Supplier 2: RSComponents; Supplier 3: Mouser; Supplier Part Number 1: 492-2518-ND; Supplier Part Number 2: 1749685; Supplier Part Number 3: 749-SLP3-150-300-F
footprint SLP3-150-300-F

## LP_SLP3-150-450-R
designator LP?, comment SLP3-150-450-R
Light Pipe, Rigid, Board Mnt, Right Angle, .150 in., 3mm Round Lens, Round Face; Manufacturer: Bivar; Manufacturer Part Number: SLP3-150-450-R; RoHS: Yes; Category: LEDs; Stock: 842; Pricing 1: 1=0.64000, 10=0.49800, 100=0.32000, 500=0.27018, 1000=0.21330, 2500=0.19908, 5000=0.19197, 10000=0.18960 (USD); Color: Clear; Material: PC,Polycarbonate; Package Quantity: 100; Packaging: Bulk; Lead Free: Lead Free; ComponentLink1URL: http://www.alliedelec.com/images/products/datasheets/bm/Bivar/70536302.pdf?src-supplier=Allied+Electronics; ComponentLink1Description: http://www.alliedelec.com/images/products/datasheets/bm/Bivar/70536302.pdf?src-supplier=Allied+Electronics; ComponentLink2URL: http://www.mouser.com/ds/2/50/SLP3-150-XXX-X-1101834.pdf?src-supplier=Mouser; ComponentLink2Description: http://www.mouser.com/ds/2/50/SLP3-150-XXX-X-1101834.pdf?src-supplier=Mouser; ComponentLink3URL: https://www.bivar.com/Files/Datasheets/SLP3-150-XXX-X.pdf?src-supplier=Digi-Key; ComponentLink3Description: https://www.bivar.com/Files/Datasheets/SLP3-150-XXX-X.pdf?src-supplier=Digi-Key; ComponentLink4URL: http://www.bivar.com/Portals/0/Products/d.ashx?f=%2fPortals%2f0%2fproducts%2fSLP3-150-XXX-X.pdf&src-supplier=Future+Electronics; ComponentLink4Description: http://www.bivar.com/Portals/0/Products/d.ashx?f=%2fPortals%2f0%2fproducts%2fSLP3-150-XXX-X.pdf&src-supplier=Future+Electronics; ComponentLink5URL: http://www.bivar.com/portals/0/products/SLP3-150-XXX-X.pdf?src-supplier=Digi-Key; ComponentLink5Description: http://www.bivar.com/portals/0/products/SLP3-150-XXX-X.pdf?src-supplier=Digi-Key; Supplier 1: Digi-Key; Supplier 2: Mouser; Supplier 3: Future Electronics; Supplier Part Number 1: 492-2519-ND; Supplier Part Number 2: 749-SLP3-150-450-R; Supplier Part Number 3: 1279777
footprint SLP3-150-450-R (Lightpipe)

## M_1717
designator M?, comment 1717
Faulhaber 1717
footprint Faulhaber1717 (Faulhaber 1717 DC-motors)
pins: 1 +, 2 5
text: M

## Mod_NINA_B3
designator *
footprint NINA-B311
pins: 1 IO_1 (io), 2 IO_2 (io), 3 IO_3 (io), 4 IO_4 (io), 5 IO_5 (io), 6 GND (power), 7 IO_7 (io), 8 IO_8 (io), 9 VCC_IO (power), 10 VCC (power), 11 SWDCLK (io), 12 GND (power), 13 ANT (io), 14 GND (power), 15 SWDIO (io), 16 UART_DTR (out), 17 UART_DSR (in), 18 IO_18 ~  (io), 19 RESET_N (in), 20 UART_RTS (out), 21 UART_CTS (in), 22 UART_TXD (out), 23 UART_RXD (in), 24 IO_24 ~ (io), 25 IO_25 ~ (io), 26 GND (power), 27 IO_27 (io), 28 NFC1 (io), 29 NFC2 (io), 30 GND (power), 31 VUSB (power), 32 IO_32 (io), 33 IO_33 (io), 34 IO_34 (io), 35 IO_35 (io), 36 IO_36 (io), 37 IO_37 (io), 38 IO_38 (io), 39 IO_39 (io), 40 IO_40 (io), 41 IO_41 (io), 42 IO_42 (io), 43 IO_43 (io), 44 IO_44 (io), 45 IO_45 (io), 46 IO_46 (io), 47 QSPI_D3 (io), 48 QSPI_D2 (io), 49 QSPI_D1 (io), 50 QSPI_D0 (io), 51 QSPI_CS (io), 52 QSPI_CLK (io), 53 GND (power), 54 D+ (io), 55 D- (io), EGP1 EP (power), EGP2 EP (power), EGP3 EP (power), EGP4 EP (power), EGP5 EP (power), EGP6 EP (power), EGP7 EP (power), EGP8 EP (power), EGP9 EP (power), EGP10 EP (power), EGP11 EP (power), EGP12 EP (power)

## Mod_Nucleo
designator A?, comment Nucleo
footprint MOD NUCLEO
part A pins: 1 PC10 (io), 2 PC11 (io), 3 PC12 (io), 4 PD2 (io), 5 VDD (power), 6 E5V (power), 7 BOOT0, 8 GND (power), 9 NC, 10 NC, 11 NC, 12 IOREF (power), 13 PA13 (io), 14 RESET (in), 15 PA14 (io), 16 +3V3 (power), 17 PA15 (io), 18 +5V (power), 19 GND (power), 20 GND (power), 21 PB7 (io), 22 GND (power), 23 PC13 (io), 24 VIN (power), 25 PC14 (power), 26 NC, 27 PC15 (io), 28 PA0 (io), 29 PD0 (io), 30 PA1 (io), 31 PD1 (io), 32 PA4 (io), 33 VBAT (power), 34 PB0 (io), 35 PC2 (io), 36 PC1 (io), 37 PC3 (io), 38 PC0 (io)
part B pins: 39 PC9 (io), 39 PC9 (io), 40 PC8 (io), 40 PC8 (io), 41 PB8 (io), 41 PB8 (io), 42 PC6 (io), 42 PC6 (io), 43 PB9 (io), 43 PB9 (io), 44 PC5 (io), 44 PC5 (io), 45 AVDD (power), 45 AVDD (power), 46 U5V (power), 46 U5V (power), 47 GND (power), 47 GND (power), 48 NC, 48 NC, 49 PA5 (io), 49 PA5 (io), 50 PA12 (io), 50 PA12 (io), 51 PA6 (io), 51 PA6 (io), 52 PA11 (io), 52 PA11 (io), 53 PA7 (io), 53 PA7 (io), 54 PB12 (io), 54 PB12 (io), 55 PB8 (io), 55 PB8 (io), 56 PB11 (io), 56 PB11 (io), 57 PC7 (io), 57 PC7 (io), 58 GND (power), 58 GND (power), 59 PA9 (io), 59 PA9 (io), 60 PB2 (io), 60 PB2 (io), 61 PA8 (io), 61 PA8 (io), 62 PB1 (io), 62 PB1 (io), 63 PB10 (io), 63 PB10 (io), 64 PB15 (io), 64 PB15 (io), 65 PB4 (io), 65 PB4 (io), 66 PB14 (io), 66 PB14 (io), 67 PB5 (io), 67 PB5 (io), 68 PB13 (io), 68 PB13 (io), 69 PB3 (io), 69 PB3 (io), 70 AGND (power), 70 AGND (power), 71 PA10 (io), 71 PA10 (io), 72 PC4 (io), 72 PC4 (io), 73 PA2 (io), 73 PA2 (io), 74 NC, 74 NC, 75 PA3 (io), 75 PA3 (io), 76 NC, 76 NC
part C pins: 77 GND (power)
part A text: CN7
part B text: CN10

## MP_7466003
designator MP?, comment 7466003
TERM PWR ELEMENT M3 1PIN SMD; Manufacturer: Wurth Electronics; Current Rating: 50A; Number of Contacts: 1; Manufacturer Part Number: 7466003; Stock 1: 1674; Pricing 1: 1 = 2.55000, 10 = 2.38000, 50 = 2.15000, 100 = 1.92000, 250 = 1.83000, 500 = 1.74000 (CHF); RoHS: Yes; Mount: Surface Mount; Number of Pins: 1; Contact Material: Brass; Contact Plating: Tin; Termination: Power; Package Quantity: 100; Length: 7mm; Thread Size: M3; REACH SVHC: Unknown; ComponentLink1URL: https://datasheet.ciiva.com/29669/7466003-29669836.pdf?src-supplier=Digi-Key; ComponentLink1Description: https://datasheet.ciiva.com/29669/7466003-29669836.pdf?src-supplier=Digi-Key; Supplier 1: Farnell; Supplier 2: Mouser; Supplier 3: RSComponents; Supplier Part Number 1: 2405984; Supplier Part Number 2: 710-7466003; Supplier Part Number 3: 8236409
footprint 7466003 (WA-SMSI SMT Steel Spacer, M8)
pins: 1

## MP_9774080482R
designator MP?, comment 9774080482R  Supplier Part Number 1: 2847858  Supplier Part Number 2: 50AC9748
WURTH ELEKTRONIK - 9774080482R - SMT STANDOFF, ROUND FEMALE, 9.4MM, M4; Manufacturer: Wurth Electronics; Manufacturer Part Number: 9774080482R; ComponentLink1Description: http://www.farnell.com/datasheets/2580479.pdf; ComponentLink1URL: http://www.farnell.com/datasheets/2580479.pdf; RoHS: No; Stock 1: 380; Pricing 1: 1=1.31000, 25=1.20000, 50=1.11000 (GBP); ComponentLink2URL: http://www.farnell.com/datasheets/2580479.pdf?src-supplier=Farnell; ComponentLink2Description: http://www.farnell.com/datasheets/2580479.pdf?src-supplier=Farnell; Supplier 1: Farnell; Supplier 2: Newark
footprint 9774080482 (WA-SMSI SMT Steel Spacer, M4)
pins: 1

## MP_9774110360R
designator MP?, comment 9774110360R
WURTH ELEKTRONIK   9774110360R   Standoff, Tin Plated, Steel, Round Female, M3, 11 mm, 11 mm; Manufacturer: Wurth Electronics; Threaded/Unthreaded: Threaded; Outside Diameter: 0.236inch; Manufacturer Part Number: 9774110360R; RoHS: Yes; Category: Spacers, Standoffs; Stock 1: 1833; Pricing 1: 1=1,65000, 10=1,52300, 50=1,41100, 100=1,21000 (USD); Mount: External; Case/Package: SMD/SMT; Material: Steel; Plating: Tin; Length: 0.488inch; Thread Size: M3; Width: 6mm; REACH SVHC: Unknown; Lead Free: Lead Free; ComponentLink1URL: http://www.farnell.com/datasheets/1840150.pdf?src-supplier=Farnell; ComponentLink1Description: http://www.farnell.com/datasheets/1840150.pdf?src-supplier=Farnell; ComponentLink2URL: https://media.digikey.com/pdf/Data%20Sheets/Wurth%20Electronics%20PDFs/WA-SMSx_Performance_Flyer.pdf?src-supplier=Digi-Key; ComponentLink2Description: https://media.digikey.com/pdf/Data%20Sheets/Wurth%20Electronics%20PDFs/WA-SMSx_Performance_Flyer.pdf?src-supplier=Digi-Key; ComponentLink3URL: http://www.mouser.com/ds/2/445/9774110360R-336052.pdf?src-supplier=Mouser; ComponentLink3Description: http://www.mouser.com/ds/2/445/9774110360R-336052.pdf?src-supplier=Mouser; ComponentLink4URL: http://www.farnell.com/datasheets/1840150.pdf?src-supplier=Element14; ComponentLink4Description: http://www.farnell.com/datasheets/1840150.pdf?src-supplier=Element14; Supplier 1: Digi-Key; Supplier 2: Mouser; Supplier 3: Farnell; Supplier Part Number 1: 732-5278-1-ND; Supplier Part Number 2: 710-9774110360R; Supplier Part Number 3: 2438009
footprint 9774110360 (WA-SMSI SMT Steel Spacer, M3)
pins: 1

## MP_9774140360R
designator MP?, comment 9774140360R
ROUND STANDOFF M3X0.5 STEEL 14MM; Manufacturer: Wurth Electronics; Plating: Tin; Threaded/Unthreaded: Threaded; Outside Diameter: 0.236inch; Thread Size: M3; Supplier 1: Digi-Key; Manufacturer Part Number: 9774140360R; RoHS: Yes; Category: Spacers, Standoffs; Stock 1: 1; Pricing 1: 1=1.65000, 10=1.52300, 50=1.41100, 100=1.21000 (USD); Mount: External; Material: Steel; Length: 0.606inch; Width: 6mm; REACH SVHC: Unknown; ComponentLink1URL: http://www.mouser.com/ds/2/445/9774140360R-336049.pdf?src-supplier=Mouser; ComponentLink1Description: http://www.mouser.com/ds/2/445/9774140360R-336049.pdf?src-supplier=Mouser; ComponentLink2URL: http://www.farnell.com/datasheets/1840156.pdf?src-supplier=Farnell; ComponentLink2Description: http://www.farnell.com/datasheets/1840156.pdf?src-supplier=Farnell; ComponentLink3URL: https://media.digikey.com/pdf/Data%20Sheets/Wurth%20Electronics%20PDFs/WA-SMSx_Performance_Flyer.pdf?src-supplier=Digi-Key; ComponentLink3Description: https://media.digikey.com/pdf/Data%20Sheets/Wurth%20Electronics%20PDFs/WA-SMSx_Performance_Flyer.pdf?src-supplier=Digi-Key; ComponentLink4URL: http://www.farnell.com/datasheets/1840156.pdf?src-supplier=Newark; ComponentLink4Description: http://www.farnell.com/datasheets/1840156.pdf?src-supplier=Newark; ComponentLink5URL: http://www.farnell.com/datasheets/1840156.pdf?src-supplier=Element14; ComponentLink5Description: http://www.farnell.com/datasheets/1840156.pdf?src-supplier=Element14; Supplier 2: Mouser; Stock 2: 760; Pricing 2: 1=1.71000, 10=1.58000, 50=1.46000, 100=1.26000, 1000=1.03000, 10000=1.03000 (USD); Supplier 3: Farnell; Stock 3: 2794; Pricing 3: 1=1.02000, 50=0.94800, 100=0.81200 (GBP); Supplier Part Number 1: 732-5281-1-ND; Supplier Part Number 2: 710-9774140360R; Supplier Part Number 3: 2438012
footprint 9774140360 (WA-SMSI SMT Steel Spacer, M3)
pins: 1

## MP_Fiducial
designator MP?, comment Fiducial  (value not drawn)  (no BOM)
footprint REF1
footprint REF1 - small
footprint REF2
footprint REF2 - small
footprint REF3
footprint REF3 - small
footprint REF - smaller

## MP_Legend
designator Logo?  (value not drawn)  (no BOM)
Layer legend
footprint Layerlegend
footprint PCB LEGEND (Layerlegend)
footprint PCB LEGEND - small (Layerlegend)
text: Layer Legend

## MP_Logo_Abfall
designator Logo?  (no BOM)
footprint Abfall_10mm
footprint Abfall_5mm
text: W

## MP_Logo_Blitz
designator Logo?
footprint Blitz_10mm
footprint Blitz_5MM
text: H

## MP_Logo_ESD
designator Logo?  (no BOM)
footprint ESD_10mm
footprint ESD_5MM
text: e

## MP_Logo_QR
designator Logo?  (no BOM)
footprint QR 8*8
text: QR

## MP_Logo_Safematic
designator Logo?  (no BOM)
footprint Safematic_Logo (Logo)
footprint Safematic_Logo small (Logo)
text: Logo Safematic

## MP_Mounting Hole
designator MP?, comment Mounting Hole  (value not drawn)  (no BOM)
Different Mounting holes
footprint M3x08S - Erdung
footprint M25x05S
footprint M3x08S
footprint 9774080482 (WA-SMSI SMT Steel Spacer, M4)
footprint M2 2.3
footprint M3x10S (Standart U-Scheibe ISO 7089)

## MP_Mounting Hole connected
designator MP?, comment Mounting Hole  (value not drawn)  (no BOM)
footprint M3x08S - Erdung
pins: 1

## N_NetTie
designator NT?, comment NetTie  (value not drawn)  (net tie, no BOM)
Net tie
footprint NetTie (0603 fooprint)
footprint NETTIE_TH
pins: 1, 2
text: NT

## POT
designator R?, comment Pot
Conn;  Term Blk;  PCB;  2;  3.5 mm;  Front;  26-16 AWG;  10 A;  300 V;  1.2 mm PA; Manufacturer: Phoenix Contact; Manufacturer Part Number: 1984617; Current Rating: 17.5A; Number of Positions: 2; Voltage Rating: 160V; Number of Levels: 1; Current: 10A; Voltage: 300V; Wire/Cable Gauge: 16AWG; Pitch: 3.5mm; Wire Gauge (Max): 26AWG; Stripping Length: 5mm; Approvals: UL; RoHS: Yes; Category: Terminal Blocks; Stock: 20463; Pricing 1: 1=0.48000, 10=0.45900, 50=0.43900, 100=0.42690, 250=0.39900, 500=0.36708, 1000=0.33915, 2500=0.33913 (USD); Mount: Through Hole; Number of Pins: 2; Weight: 0.032487oz; Contact Material: Tin; Housing Color: Green; Material: Nylon; Housing Material: Polyamide; Color: Green; Packaging: Bulk; Termination: Solder; Number of Contacts: 2; Orientation: Straight; Number of Positions Per Level: 2; Number of Circuits: 2; Number of Rows: 1; Max Current Rating: 10A; Max Supply Voltage: 160V; Package Quantity: 250; Number of Poles: 2; Length: 7mm; Height: 9mm; Depth: 7.6mm; Wire Gauge (Min): 16AWG; Width: 13.7mm; Radiation Hardening: No; Lead Free: Lead Free; Flammability Rating: UL94 V-0; ComponentLink1URL: https://datasheet.ciiva.com/3969/1984617-3969923.pdf?src-supplier=Arrow; ComponentLink1Description: https://datasheet.ciiva.com/3969/1984617-3969923.pdf?src-supplier=Arrow; ComponentLink2URL: https://datasheet.ciiva.com/11758/0900766b811d7588-11758486.pdf?src-supplier=RSComponents; ComponentLink2Description: https://datasheet.ciiva.com/11758/0900766b811d7588-11758486.pdf?src-supplier=RSComponents; ComponentLink3URL: https://datasheet.ciiva.com/15169/getdatasheetpartid-212214-15169950.pdf?src-supplier=Verical; ComponentLink3Description: https://datasheet.ciiva.com/15169/getdatasheetpartid-212214-15169950.pdf?src-supplier=Verical; ComponentLink4URL: https://datasheet.ciiva.com/16070/1984617-16070639.pdf?src-supplier=Onlinecomponents.com; ComponentLink4Description: https://datasheet.ciiva.com/16070/1984617-16070639.pdf?src-supplier=Onlinecomponents.com; ComponentLink5URL: https://datasheet.ciiva.com/823/combiconcompactseries-823754.pdf?src-supplier=Digi-Key; ComponentLink5Description: https://datasheet.ciiva.com/823/combiconcompactseries-823754.pdf?src-supplier=Digi-Key
footprint 3310C-001 (PinHeader 1x3 TH Pitch 2.54mm female)
footprint 3314G
pins: 1, 2, 3

## Q_ABLS2-8.000MHZ-D4Y-T
designator Q?, comment ABLS2-8.000MHZ-D4Y-T
ABLS2 Series 8 MHz ±30 ppm 18 pF -40 to +85 °C Surface Mount Low Profile Crystal; Manufacturer: Abracon; Frequency: 8MHz; Frequency Tolerance: 30ppm; Load Capacitance: 18pF; ESR (Equivalent Series Resistance): 80R; Operating Frequency: 8 MHz; Supplier 1: Digi-Key; Supplier Part Number 1: 535-9864-1-ND; Manufacturer Part Number: ABLS2-8.000MHZ-D4Y-T; ComponentLink1URL: https://datasheet.ciiva.com/15116/getdatasheetpartid-719893-15116778.pdf; ComponentLink1Description: https://datasheet.ciiva.com/15116/getdatasheetpartid-719893-15116778.pdf; ComponentLink2URL: https://datasheet.ciiva.com/3174/abls2-3174136.pdf; ComponentLink2Description: https://datasheet.ciiva.com/3174/abls2-3174136.pdf; ComponentLink3URL: https://datasheet.ciiva.com/854/abls2-854378.pdf; ComponentLink3Description: https://datasheet.ciiva.com/854/abls2-854378.pdf; ComponentLink4URL: https://datasheet.ciiva.com/854/abls2-854379.pdf; ComponentLink4Description: https://datasheet.ciiva.com/854/abls2-854379.pdf; ComponentLink5URL: https://datasheet.ciiva.com/7998/1749648-7998491.pdf; ComponentLink5Description: https://datasheet.ciiva.com/7998/1749648-7998491.pdf; ComponentLink6URL: https://datasheet.ciiva.com/854/abls2-854380.pdf; ComponentLink6Description: https://datasheet.ciiva.com/854/abls2-854380.pdf; ComponentLink7URL: https://datasheet.ciiva.com/28508/1749648-28508412.pdf; ComponentLink7Description: https://datasheet.ciiva.com/28508/1749648-28508412.pdf; ComponentLink8URL: https://datasheet.ciiva.com/16292/abls2-16292557.pdf; ComponentLink8Description: https://datasheet.ciiva.com/16292/abls2-16292557.pdf; RoHS: Yes; Category: Crystals; Stock 1: 13928; Pricing 1: 1=0.40000, 10=0.33600, 50=0.30240, 100=0.26880, 500=0.25536 (USD); Mount: Surface Mount; Number of Pins: 2; Min Operating Temperature: -40°C; Max Operating Temperature: 85°C; Package Quantity: 1000; Tolerance: 30ppm; Packaging: Tape and Reel; Frequency Stability: 30ppm; Termination: SMD/SMT; Series Resistance: 80R; Series: ABLS2; Length: 11.4mm; Width: 4.7mm; Height: 0.13inch; Depth: 4.7mm; REACH SVHC: Unknown; Lead Free: Lead Free; RoHS Compliant: Yes; ComponentLink9URL: https://datasheet.ciiva.com/15116/getdatasheetpartid-719893-15116778.pdf?src-supplier=Verical; ComponentLink9Description: https://datasheet.ciiva.com/15116/getdatasheetpartid-719893-15116778.pdf?src-supplier=Verical; ComponentLink10URL: https://datasheet.ciiva.com/28508/1749648-28508412.pdf?src-supplier=Element14; ComponentLink10Description: https://datasheet.ciiva.com/28508/1749648-28508412.pdf?src-supplier=Element14; ComponentLink11URL: https://datasheet.ciiva.com/3174/abls2-3174136.pdf?src-supplier=Avnet; ComponentLink11Description: https://datasheet.ciiva.com/3174/abls2-3174136.pdf?src-supplier=Avnet; ComponentLink12URL: https://datasheet.ciiva.com/854/abls2-854378.pdf?src-supplier=Digi-Key; ComponentLink12Description: https://datasheet.ciiva.com/854/abls2-854378.pdf?src-supplier=Digi-Key; ComponentLink13URL: https://datasheet.ciiva.com/854/abls2-854379.pdf?src-supplier=Digi-Key; ComponentLink13Description: https://datasheet.ciiva.com/854/abls2-854379.pdf?src-supplier=Digi-Key; ComponentLink14URL: https://datasheet.ciiva.com/7998/1749648-7998491.pdf?src-supplier=Element14; ComponentLink14Description: https://datasheet.ciiva.com/7998/1749648-7998491.pdf?src-supplier=Element14; ComponentLink15URL: https://datasheet.ciiva.com/854/abls2-854380.pdf?src-supplier=Digi-Key; ComponentLink15Description: https://datasheet.ciiva.com/854/abls2-854380.pdf?src-supplier=Digi-Key; ComponentLink16URL: https://datasheet.ciiva.com/16292/abls2-16292557.pdf?src-supplier=Future+Electronics; ComponentLink16Description: https://datasheet.ciiva.com/16292/abls2-16292557.pdf?src-supplier=Future+Electronics; Supplier 2: Mouser; Stock 2: 15799; Pricing 2: 1=0.40000, 10=0.33600, 50=0.30300, 100=0.26900, 1000=0.19100, 10000=0.19100 (USD); Supplier 3: Farnell; Stock 3: 410; Pricing 3: 1=0.31000, 10=0.28300, 25=0.26900, 50=0.25600, 100=0.23100, 250=0.22600, 500=0.22000 (GBP); Supplier Part Number 2: 815-ABLS2-8-D4Y-T; Supplier Part Number 3: 1885238
footprint ABLS2 (CRYSTAL Abracon LLC)
pins: 1, 2

## Q_ABMM2-12.000MHZ-E2-T
designator Q?, comment ABMM2-12.000MHZ-E2-T
ABRACON - ABMM2-12.000MHZ-E2-T - CRYSTAL, 12MHZ, 18PF, 6 X 3.5MM; Frequency Tolerance: 20ppm; ESR (Equivalent Series Resistance): 50R; Supplier 1: Digi-Key; Supplier Part Number 1: 535-9631-1-ND; Manufacturer: Abracon; Manufacturer Part Number: ABMM2-12.000MHZ-E2-T; Case/Package: CSMD; ComponentLink1URL: https://datasheet.ciiva.com/15116/getdatasheetpartid-719825-15116727.pdf; ComponentLink1Description: https://datasheet.ciiva.com/15116/getdatasheetpartid-719825-15116727.pdf; ComponentLink2URL: https://datasheet.ciiva.com/855/abmm2-855417.pdf; ComponentLink2Description: https://datasheet.ciiva.com/855/abmm2-855417.pdf; ComponentLink3URL: https://datasheet.ciiva.com/3176/abmm2-3176137.pdf; ComponentLink3Description: https://datasheet.ciiva.com/3176/abmm2-3176137.pdf; ComponentLink4URL: https://datasheet.ciiva.com/855/abmm2-855418.pdf; ComponentLink4Description: https://datasheet.ciiva.com/855/abmm2-855418.pdf; ComponentLink5URL: https://datasheet.ciiva.com/855/abmm2-855419.pdf; ComponentLink5Description: https://datasheet.ciiva.com/855/abmm2-855419.pdf; ComponentLink6URL: https://datasheet.ciiva.com/16214/abmm2-16214428.pdf; ComponentLink6Description: https://datasheet.ciiva.com/16214/abmm2-16214428.pdf; RoHS: Yes; Category: Crystals; Stock 1: 2540; Pricing 1: 1=0.87000, 10=0.77300, 50=0.72240, 100=0.63840, 500=0.60480 (USD); Mount: Surface Mount; Number of Pins: 4; Min Operating Temperature: -20°C; Max Operating Temperature: 70°C; Frequency: 12MHz; Load Capacitance: 18pF; Package Quantity: 1000; Packaging: Tape and Reel; Frequency Stability: 20ppm; Tolerance: 20ppm; Termination: SMD/SMT; Resistor Type: Ceramic; Series Resistance: 50R; Series: ABMM2; Operating Frequency: 12 MHz; Accuracy: 20ppm; Length: 6mm; Width: 3.6mm; Height: 0.047inch; Depth: 3.6mm; Lead Free: Lead Free; REACH SVHC: No SVHC; RoHS Compliant: Yes; ComponentLink7URL: https://datasheet.ciiva.com/15116/getdatasheetpartid-719825-15116727.pdf?src-supplier=Verical; ComponentLink7Description: https://datasheet.ciiva.com/15116/getdatasheetpartid-719825-15116727.pdf?src-supplier=Verical; ComponentLink8URL: https://datasheet.ciiva.com/855/abmm2-855417.pdf?src-supplier=Digi-Key; ComponentLink8Description: https://datasheet.ciiva.com/855/abmm2-855417.pdf?src-supplier=Digi-Key; ComponentLink9URL: https://datasheet.ciiva.com/3176/abmm2-3176137.pdf?src-supplier=Avnet; ComponentLink9Description: https://datasheet.ciiva.com/3176/abmm2-3176137.pdf?src-supplier=Avnet; ComponentLink10URL: https://datasheet.ciiva.com/855/abmm2-855418.pdf?src-supplier=Digi-Key; ComponentLink10Description: https://datasheet.ciiva.com/855/abmm2-855418.pdf?src-supplier=Digi-Key; ComponentLink11URL: https://datasheet.ciiva.com/855/abmm2-855419.pdf?src-supplier=Digi-Key; ComponentLink11Description: https://datasheet.ciiva.com/855/abmm2-855419.pdf?src-supplier=Digi-Key; ComponentLink12URL: https://datasheet.ciiva.com/16214/abmm2-16214428.pdf?src-supplier=Future+Electronics; ComponentLink12Description: https://datasheet.ciiva.com/16214/abmm2-16214428.pdf?src-supplier=Future+Electronics; Supplier 2: Mouser; Stock 2: 6807; Pricing 2: 1=0.88000, 10=0.77500, 50=0.72400, 100=0.64000, 1000=0.50500, 10000=0.50500 (USD); Supplier 3: Farnell; Stock 3: 12727; Pricing 3: 1=0.71500, 50=0.54400, 100=0.48100, 250=0.46800, 500=0.45500, 1000=0.41100, 5000=0.36700 (GBP); Supplier Part Number 2: 815-ABMM2-12-E2T; Supplier Part Number 3: 1652557
footprint ABMM2
pins: 1, 2, 3, 4 3

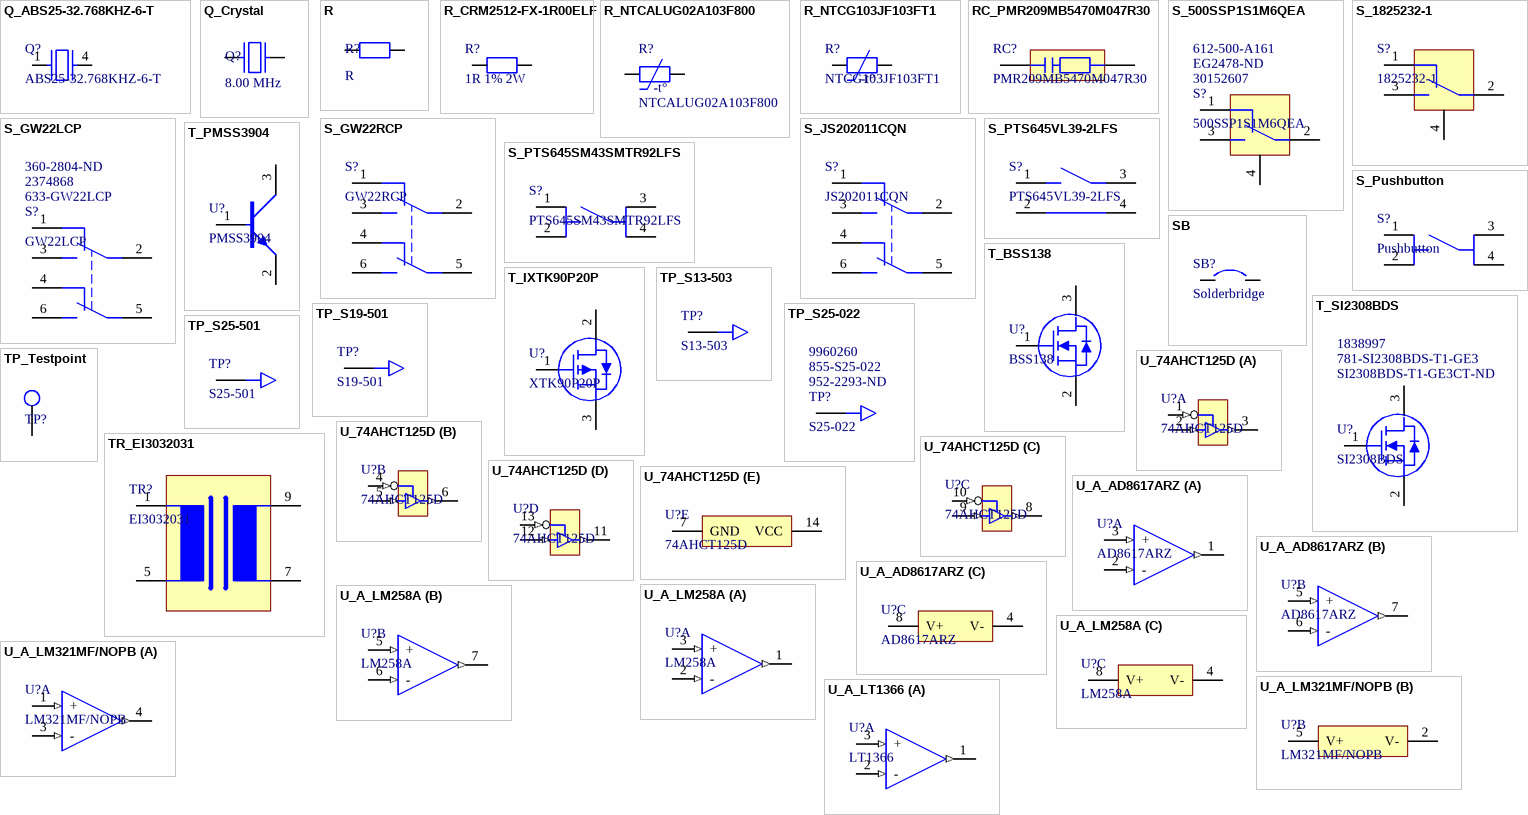
[diagram p3: symbols Q_ABS25-32.768KHZ-6-T to U_A_LT1366]